# Altium schematic symbol library ART-Pi.SCHLIB: 1 symbol
Pins are listed as number, name and electrical type; pins without a type are passive.

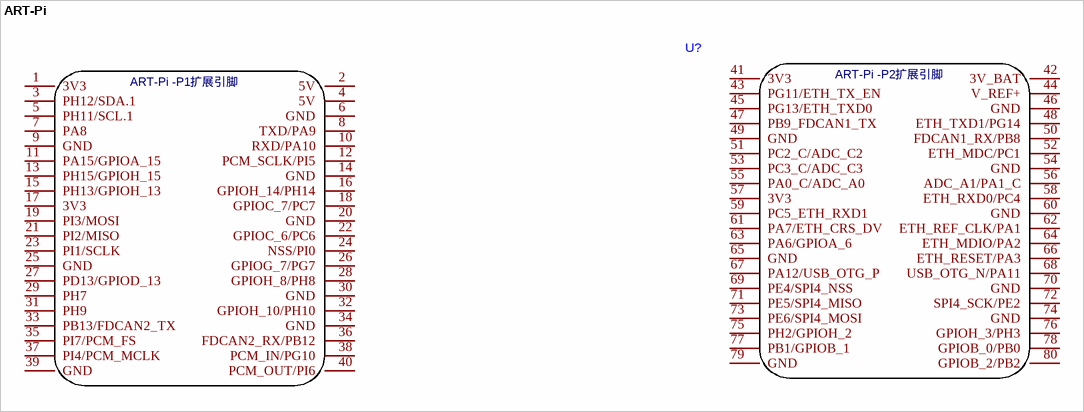
[diagram p0: symbol ART-Pi]

## ART-Pi
designator U?
footprint PCBComponent_1 - duplicate
pins: 1 3V3, 2 5V, 3 PH12/SDA.1, 4 5V, 5 PH11/SCL.1, 6 GND, 7 PA8, 8 TXD/PA9, 9 GND, 10 RXD/PA10, 11 PA15/GPIOA_15, 12 PCM_SCLK/PI5, 13 PH15/GPIOH_15, 14 GND, 15 PH13/GPIOH_13, 16 GPIOH_14/PH14, 17 3V3, 18 GPIOC_7/PC7, 19 PI3/MOSI, 20 GND, 21 PI2/MISO, 22 GPIOC_6/PC6, 23 PI1/SCLK, 24 NSS/PI0, 25 GND, 26 GPIOG_7/PG7, 27 PD13/GPIOD_13, 28 GPIOH_8/PH8, 29 PH7, 30 GND, 31 PH9, 32 GPIOH_10/PH10, 33 PB13/FDCAN2_TX, 34 GND, 35 PI7/PCM_FS, 36 FDCAN2_RX/PB12, 37 PI4/PCM_MCLK, 38 PCM_IN/PG10, 39 GND, 40 PCM_OUT/PI6, 41 3V3, 42 3V_BAT, 43 PG11/ETH_TX_EN, 44 V_REF+, 45 PG13/ETH_TXD0, 46 GND, 47 PB9_FDCAN1_TX, 48 ETH_TXD1/PG14, 49 GND, 50 FDCAN1_RX/PB8, 51 PC2_C/ADC_C2, 52 ETH_MDC/PC1, 53 PC3_C/ADC_C3, 54 GND, 55 PA0_C/ADC_A0, 56 ADC_A1/PA1_C, 57 3V3, 58 ETH_RXD0/PC4, 59 PC5_ETH_RXD1, 60 GND, 61 PA7/ETH_CRS_DV, 62 ETH_REF_CLK/PA1, 63 PA6/GPIOA_6, 64 ETH_MDIO/PA2, 65 GND, 66 ETH_RESET/PA3, 67 PA12/USB_OTG_P, 68 USB_OTG_N/PA11, 69 PE4/SPI4_NSS, 70 GND, 71 PE5/SPI4_MISO, 72 SPI4_SCK/PE2, 73 PE6/SPI4_MOSI, 74 GND, 75 PH2/GPIOH_2, 76 GPIOH_3/PH3, 77 PB1/GPIOB_1, 78 GPIOB_0/PB0, 79 GND, 80 GPIOB_2/PB2
text: ART-Pi -P2扩展引脚; ART-Pi -P1扩展引脚